# Altium schematic symbol library MAX9814ETD+T.Schlib: 1 symbol
Pins are listed as number, name and electrical type; pins without a type are passive.

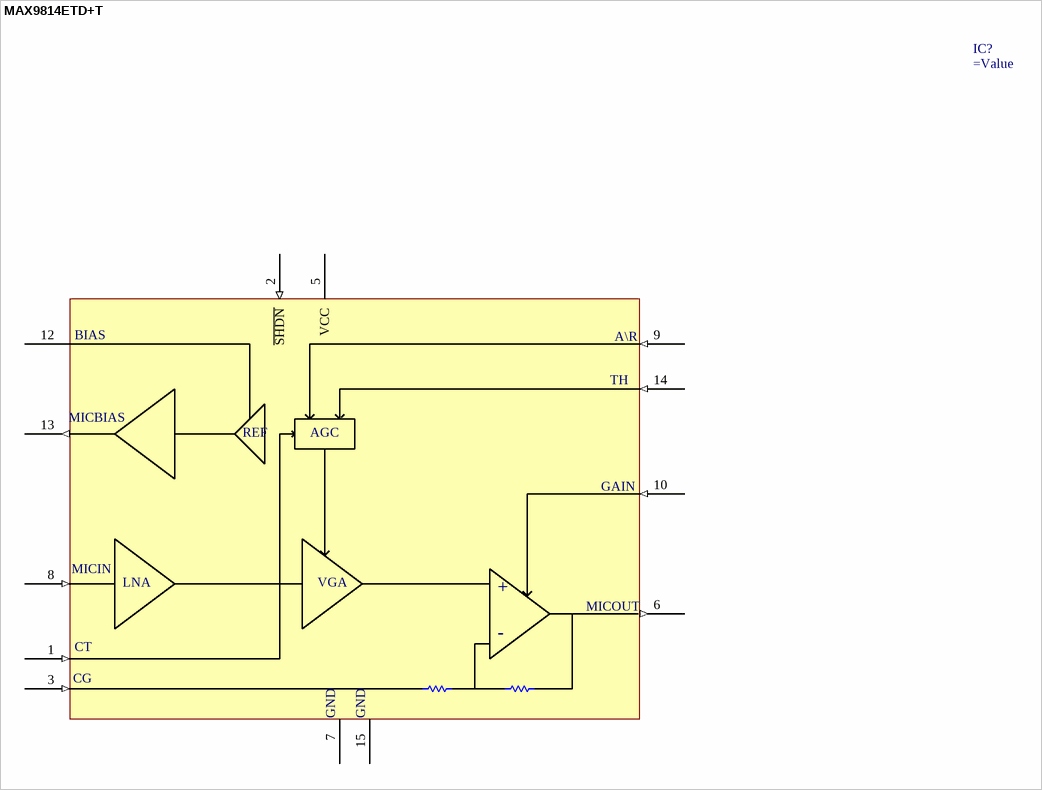
[diagram p0: symbol MAX9814ETD+T]

## MAX9814ETD+T
designator IC?
=Description
pins: 1 CT (in), 2 ~{SHDN} (in), 3 CG (in), 5 VCC (power), 6 MICOUT (out), 7 GND (power), 8 MICIN (in), 9 A/R (in), 10 GAIN (in), 12 BIAS, 13 MICBIAS (out), 14 TH (in), 15 GND (power)
text: A\R; REF; AGC; LNA; VGA; +; -